# EAGLE library part ESP-S3-12K (library Module)
Ai-Thinker ESP-S3-12K WiFi Module.
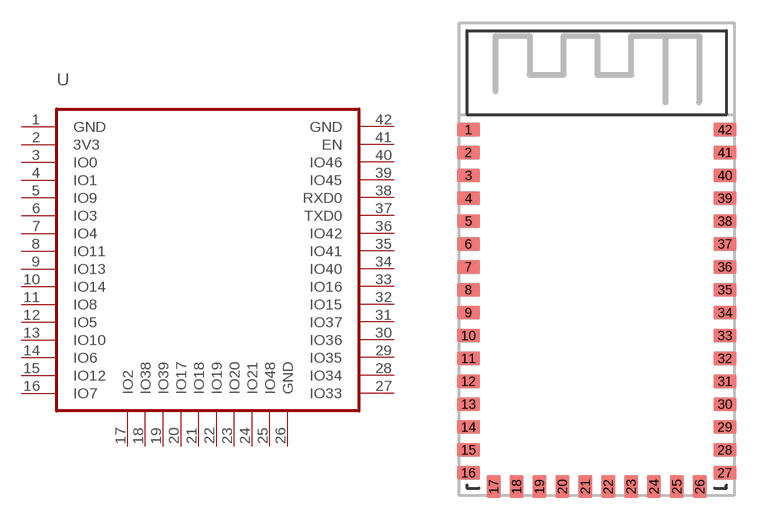
[diagram p20: symbol with the pads of ESP-S3-12K; footprint ESP-S3-12K]

Designator prefix U

## ESP-S3-12K (MPN: ESP-S3-12K)  [ESP-S3-12K]
1  GND
2  3V3
3  IO0
4  IO1
5  IO9
6  IO3
7  IO4
8  IO11
9  IO13
10  IO14
11  IO8
12  IO5
13  IO10
14  IO6
15  IO12
16  IO7
17  IO2
18  IO38
19  IO39
20  IO17
21  IO18
22  IO19
23  IO20
24  IO21
25  IO48
26  GND
27  IO33
28  IO34
29  IO35
30  IO36
31  IO37
32  IO15
33  IO16
34  IO40
35  IO41
36  IO42
37  TXD0
38  RXD0
39  IO45
40  IO46
41  EN
42  GND

## Footprint ESP-S3-12K (pad centres in mm)
Ai-Thinker ESP-S3-12K WiFi Module.
smd 1.5 x 0.9: 1 -8.4,16; 2 -8.4,14.5; 3 -8.4,13; 4 -8.4,11.5; 5 -8.4,10; 6 -8.4,8.5; 7 -8.4,7; 8 -8.4,5.5; 9 -8.4,4; 10 -8.4,2.5; 11 -8.4,1; 12 -8.4,-0.5; 13 -8.4,-2; 14 -8.4,-3.5; 15 -8.4,-5; 16 -8.4,-6.5; 27 8.4,-6.5; 28 8.4,-5; 29 8.4,-3.5; 30 8.4,-2; 31 8.4,-0.5; 32 8.4,1; 33 8.4,2.5; 34 8.4,4; 35 8.4,5.5; 36 8.4,7; 37 8.4,8.5; 38 8.4,10; 39 8.4,11.5; 40 8.4,13; 41 8.4,14.5; 42 8.4,16
smd 0.9 x 1.5: 17 -6.75,-7.4; 18 -5.25,-7.4; 19 -3.75,-7.4; 20 -2.25,-7.4; 21 -0.75,-7.4; 22 0.75,-7.4; 23 2.25,-7.4; 24 3.75,-7.4; 25 5.25,-7.4; 26 6.75,-7.4